# EAGLE library part TXB0101DCKRG4 (library MOTO_LIB)
1 bit logic level shifter
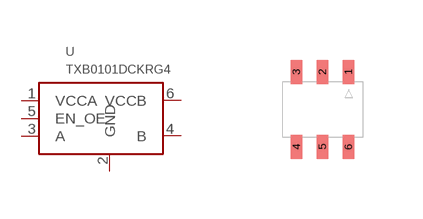
[diagram p17: symbol with the pads of SC70RB_P6; footprint SC70RB_P6]

Designator prefix U

## TXB0101DCKRG4 (MPN: TXB0101DCKRG4; SUPPLIER: TI)  [SC70RB_P6]
1  VCCA
2  GND
3  A
4  B
5  EN_OE
6  VCCB

## Footprint SC70RB_P6 (pad centres in mm)
smd 0.28 x 0.6: 1 0.65,0.94; 2 0,0.94; 3 -0.65,0.94; 4 -0.65,-0.94; 5 0,-0.94; 6 0.65,-0.94